# Altium schematic symbol library Schlib.SchLib: 629 symbols (part 12 of 21)
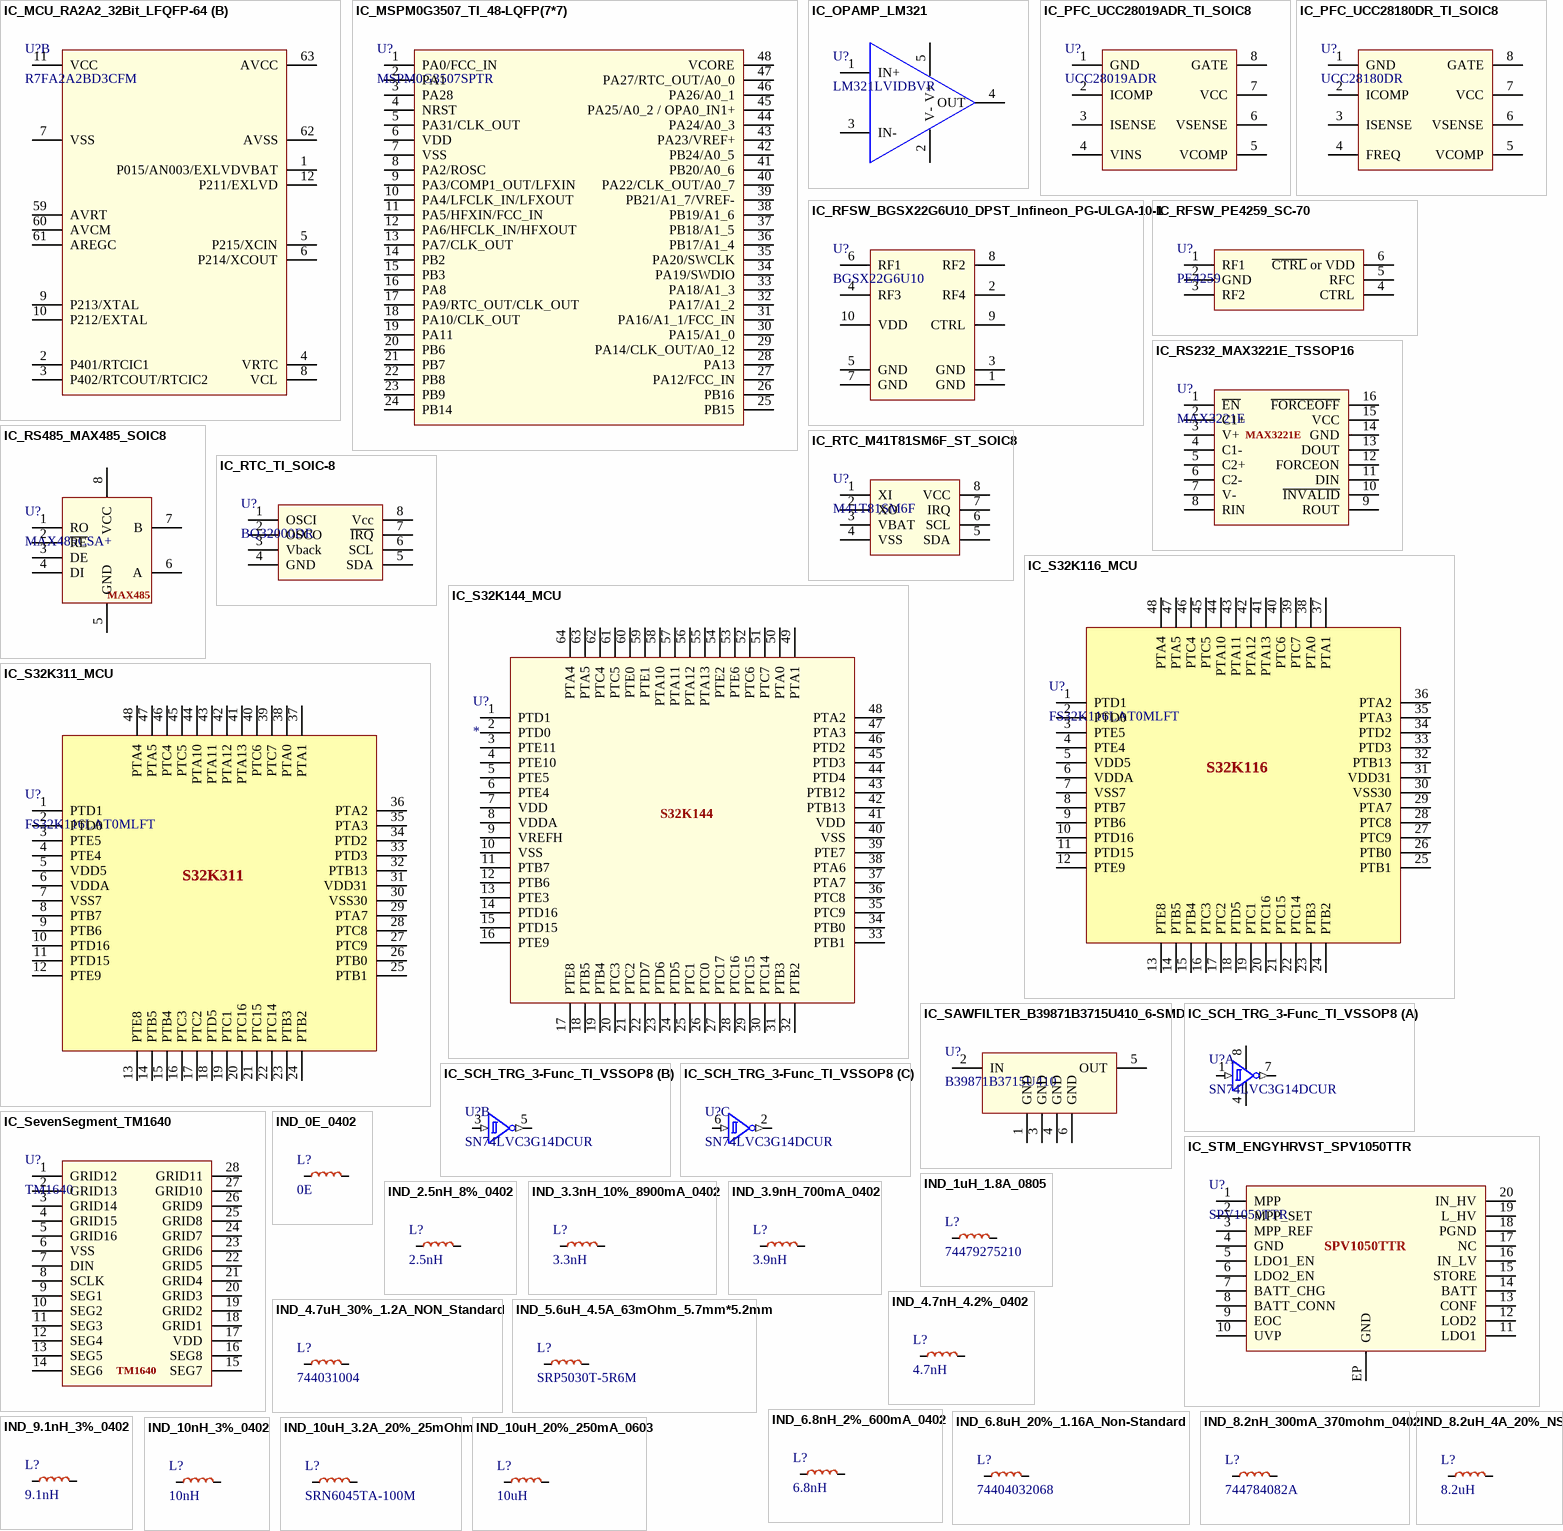
[diagram p29: symbols IC_MCU_RA2A2_32Bit_LFQFP-64 to IND_10uH_20%_250mA_0603]

## IND_10uH_20%_250mA_0603
designator L?, comment 10uH
General Purpose Inductor, 10uH, 20%, 1 Element, Ferrite-Core, SMD, 0603; Manufacturer: TDK; Manufacturer Part Number: MLZ1608M100WT000; Case/Size Code: 0603; DC Resistance (DCR): 1.05R; Channels: 1; Max Current Rating: 250mA; Self Resonant Frequency: 50MHz; Shape/Size Description: RECTANGULAR PACKAGE; Shielding: Unshielded; Test Frequency: 2MHz; Package Height: 0.8mm; Package Length: 1.6mm; Supplier: Digikey; Supplier Part Number: 445-6389-1-ND; RoHS: Yes; Category: Fixed Inductors; Stock: 119455; Pricing: 1=0.14, 10=0.105, 100=0.0816, 1000=0.06337 (USD); Pins: 2; Core Material: Ferrite; Min Operating Temperature: -55°C; Max Operating Temperature: 125°C; Tolerance: 20%; Construction: Multilayer Chip; Inductance-Nom (L): 10uH; Inductor Type: GENERAL PURPOSE INDUCTOR; Package Style: SMTMeter; Packaging: Tape and Reel; Surface Mount: Yes; Terminal Placement: Dual Ended; Termination: Wraparound; Package Width: 0.8mm; Reach SVHC Compliant: Yes; RoHS Compliant: Yes; ComponentLink1URL: https://datasheet.ciiva.com:443/pdfs/VipMasterIC/IC/TDKC/TDKC-S-A0007713882/TDKC-S-A0007713882-1.pdf?src-supplier=IHS+Markit; ComponentLink1Description: https://datasheet.ciiva.com:443/pdfs/VipMasterIC/IC/TDKC/TDKC-S-A0007713882/TDKC-S-A0007713882-1.pdf?src-supplier=IHS+Markit; ComponentLink2URL: https://product.tdk.com/info/en/catalog/datasheets/inductor_commercial_decoupling_mlz1608_en.pdf?src-supplier=Digikey; ComponentLink2Description: https://product.tdk.com/info/en/catalog/datasheets/inductor_commercial_decoupling_mlz1608_en.pdf?src-supplier=Digikey; ComponentLink3URL: https://datasheet.octopart.com/MLZ1608M100WT000-TDK-datasheet-12356712.pdf?src-supplier=Newark; ComponentLink3Description: https://datasheet.octopart.com/MLZ1608M100WT000-TDK-datasheet-12356712.pdf?src-supplier=Newark; ComponentLink4URL: https://datasheet.octopart.com/MLZ1608M100WT000-TDK-datasheet-38159369.pdf?src-supplier=Future+Electronics; ComponentLink4Description: https://datasheet.octopart.com/MLZ1608M100WT000-TDK-datasheet-38159369.pdf?src-supplier=Future+Electronics
footprint RES_0603
pins: 1, 2 1

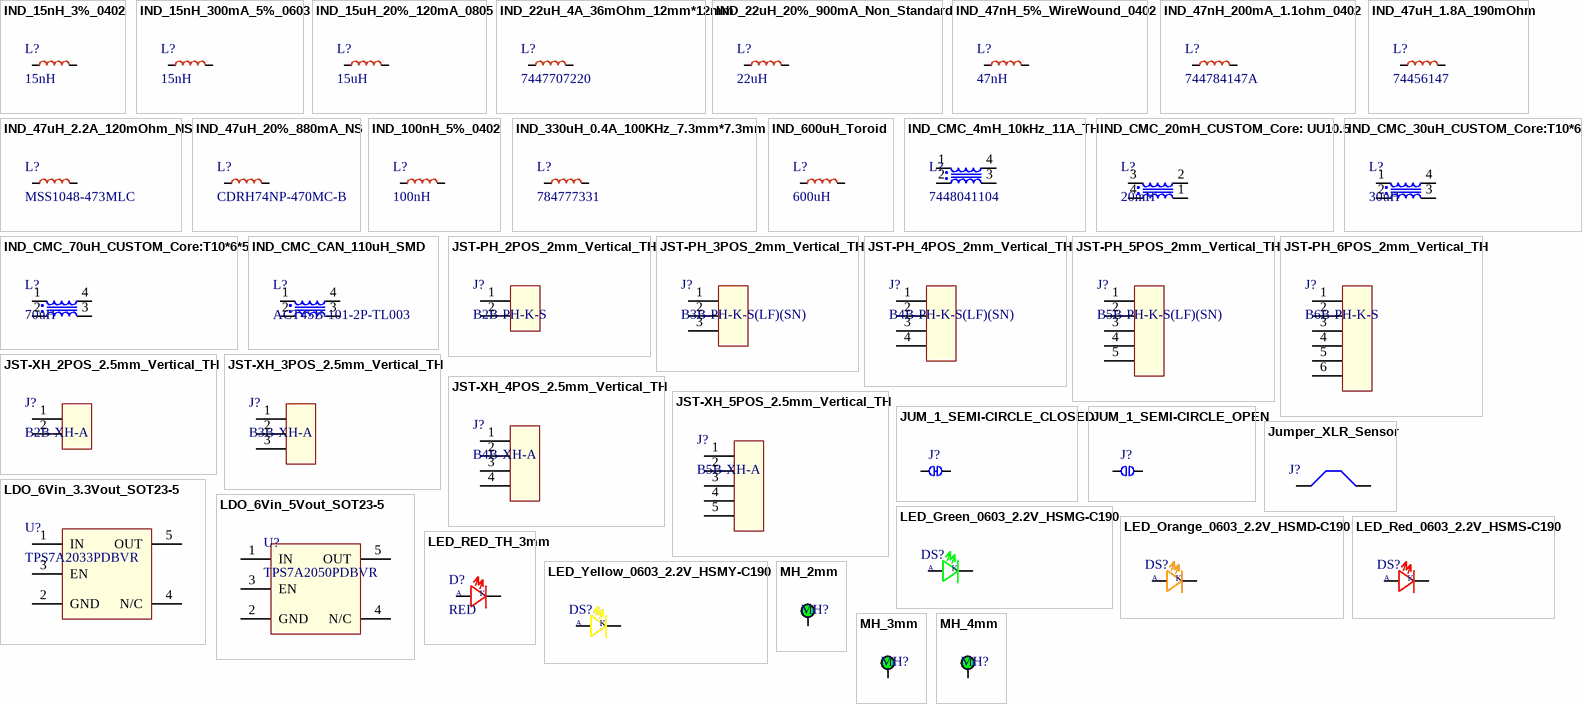
[diagram p10: symbols IND_15nH_3%_0402 to MH_4mm]

## IND_15nH_3%_0402
designator L?, comment 15nH
General Purpose Inductor, 0.015uH, 3%, 1 Element, Alumina-Core, SMD, 0402; Manufacturer: Murata; Manufacturer Part Number: LQW15AN15NH00D; Case/Size Code: 0402; DC Resistance (DCR): 160mR; Inductor Application: RF INDUCTOR; Channels: 1; Quality Factor-Min (at L-nom): 30; Max Current Rating: 460mA; Self Resonant Frequency: 5GHz; Shape/Size Description: RECTANGULAR PACKAGE; Shielding: Unshielded; Test Frequency: 100MHz; Package Height: 0.5mm; Package Length: 1mm; Package Width: 0.6mm; Supplier: Mouser; Supplier Part Number: 81-LQW15AN15NH00D; RoHS: Yes; Category: Fixed Inductors; Stock: 41175; Pricing: 1=0.14, 10=0.092, 50=0.092, 100=0.072, 1000=0.067, 10000=0.047 (USD); Pins: 2; Core Material: Alumina; Terminal Finish: Nickel; Min Operating Temperature: -55°C; Max Operating Temperature: 125°C; Tolerance: 3%; JESD-609 Code: e3; Construction: Wirewound Chip; Inductance-Nom (L): 0.015uH; Inductor Type: GENERAL PURPOSE INDUCTOR; Package Style: SMTMeter; Packaging: Tape and Reel; Surface Mount: Yes; Terminal Placement: Dual Ended; Termination: One Surface; Reach SVHC Compliant: Yes; RoHS Compliant: Yes; ComponentLink1URL: https://datasheet.ciiva.com:443/pdfs/VipMasterIC/IC/MURE/MURE-S-A0004390746/MURE-S-A0004390770-1.pdf?src-supplier=IHS+Markit; ComponentLink1Description: https://datasheet.ciiva.com:443/pdfs/VipMasterIC/IC/MURE/MURE-S-A0004390746/MURE-S-A0004390770-1.pdf?src-supplier=IHS+Markit; ComponentLink2URL: https://datasheet.ciiva.com/11799/0900766b8090d800-11799017.pdf?src-supplier=Rs; ComponentLink2Description: https://datasheet.ciiva.com/11799/0900766b8090d800-11799017.pdf?src-supplier=Rs; ComponentLink3URL: https://datasheet.ciiva.com/8507/l0075s0080lqw15a-00-8507493.pdf?src-supplier=Avnet; ComponentLink3Description: https://datasheet.ciiva.com/8507/l0075s0080lqw15a-00-8507493.pdf?src-supplier=Avnet; ComponentLink4URL: https://datasheet.ciiva.com/6705/l0075s0080lqw15a-00-6705423.pdf?src-supplier=Digikey; ComponentLink4Description: https://datasheet.ciiva.com/6705/l0075s0080lqw15a-00-6705423.pdf?src-supplier=Digikey; ComponentLink5URL: https://datasheet.ciiva.com/18089/getdatasheetpartid-136002-18089494.pdf?src-supplier=Verical; ComponentLink5Description: https://datasheet.ciiva.com/18089/getdatasheetpartid-136002-18089494.pdf?src-supplier=Verical
footprint RES_0402
pins: 1, 2 1

## IND_15nH_300mA_5%_0603
designator L?, comment 15nH
General Purpose Inductor; Manufacturer: Wurth Electronics; Manufacturer Part Number: 7447860115; Supplier: Rs; Supplier Part Number: 2177593; RoHS: No; Stock: 100; Pricing: 100=0.023, 500=0.043, 1000=0.036, 2000=0.034 (EUR); RoHS Compliant: Yes
footprint RES_0603
pins: 1, 2 1

## IND_15uH_20%_120mA_0805
designator L?, comment 15uH
General Purpose Inductor, 15uH, 20%, 1 Element, Ferrite-Core, SMD, 0805; Manufacturer: TDK; Manufacturer Part Number: MLZ2012M150WT000; Case/Size Code: 0805; DC Resistance (DCR): 950mR; Channels: 1; Max Current Rating: 250mA; Self Resonant Frequency: 40MHz; Shape/Size Description: RECTANGULAR PACKAGE; Shielding: Unshielded; Test Frequency: 2MHz; Package Height: 1.25mm; Package Length: 2mm; Supplier: Avnet; Supplier Part Number: 46W4793; RoHS: Yes; Category: Fixed Inductors; Stock: 235; Pricing: 1=0.118, 10=0.059, 25=0.054, 50=0.05, 100=0.045 (USD); Pins: 2; Core Material: Ferrite; Min Operating Temperature: -55°C; Max Operating Temperature: 125°C; Tolerance: 20%; Construction: Multilayer Chip; Inductance-Nom (L): 15uH; Inductor Type: GENERAL PURPOSE INDUCTOR; Package Style: SMTMeter; Packaging: Tape and Reel; Surface Mount: Yes; Terminal Placement: Dual Ended; Termination: Wraparound; Package Width: 1.25mm; Reach SVHC Compliant: Yes; RoHS Compliant: Yes; ComponentLink1URL: https://datasheet.ciiva.com:443/pdfs/VipMasterIC/IC/TDKC/TDKC-S-A0006811741/TDKC-S-A0006811741-1.pdf?src-supplier=IHS+Markit; ComponentLink1Description: https://datasheet.ciiva.com:443/pdfs/VipMasterIC/IC/TDKC/TDKC-S-A0006811741/TDKC-S-A0006811741-1.pdf?src-supplier=IHS+Markit; ComponentLink2URL: https://datasheet.ciiva.com/29690/inductor-commercial-decoupling-mlz-en-29690328.pdf?src-supplier=Digikey; ComponentLink2Description: https://datasheet.ciiva.com/29690/inductor-commercial-decoupling-mlz-en-29690328.pdf?src-supplier=Digikey; ComponentLink3URL: https://datasheet.ciiva.com/29690/inductor-commercial-decoupling-mlz-en-29690327.pdf?src-supplier=Digikey; ComponentLink3Description: https://datasheet.ciiva.com/29690/inductor-commercial-decoupling-mlz-en-29690327.pdf?src-supplier=Digikey; ComponentLink4URL: https://datasheet.ciiva.com/29690/inductor-commercial-decoupling-mlz-en-29690329.pdf?src-supplier=Digikey; ComponentLink4Description: https://datasheet.ciiva.com/29690/inductor-commercial-decoupling-mlz-en-29690329.pdf?src-supplier=Digikey
footprint RES_0805
pins: 1, 2 1

## IND_22uH_4A_36mOhm_12mm*12mm
designator L?, comment 7447707220
Power Inductors - SMD WE-PD 22uH 4A DCR=36mOhms AECQ200; Manufacturer: Wurth Electronics; Supplier: Mouser; Supplier Part Number: 710-7447707220; Manufacturer Part Number: 7447707220; RoHS: No; Stock: 489; Pricing: 1=2.58, 10=2.4, 50=2.24, 100=2.17, 1000=1.84, 10000=1.58 (USD); RoHS Compliant: Yes
footprint IND 12mm*12mm
pins: 1, 2 1

## IND_22uH_20%_900mA_Non_Standard
designator L?, comment 22uH
General Purpose Inductor, 22uH, 20%, 1 Element, Ferrite-Core, SMD, 1515; Manufacturer: Coilcraft; Manufacturer Part Number: LPS4018-223MRC; Supplier: Mouser; Supplier Part Number: 994-LPS4018-223MRC; RoHS: No; Category: Fixed Inductors; Stock: 36587; Pricing: 1=1.22, 10=1.22, 50=1.22, 100=1.22, 1000=0.663, 10000=0.663 (USD); ComponentLink1URL: https://datasheet.ciiva.com:443/pdfs/VipMasterIC/IC/COLC/COLC-S-A0003132126/COLC-S-A0003132126-1.pdf?src-supplier=IHS+Markit; ComponentLink1Description: https://datasheet.ciiva.com:443/pdfs/VipMasterIC/IC/COLC/COLC-S-A0003132126/COLC-S-A0003132126-1.pdf?src-supplier=IHS+Markit; ComponentLink2URL: http://www.mouser.com/ds/2/597/lps4018-270702.pdf?src-supplier=Mouser; ComponentLink2Description: http://www.mouser.com/ds/2/597/lps4018-270702.pdf?src-supplier=Mouser
footprint IND_1515
pins: 1, 2 1

## IND_47nH_5%_WireWound_0402
designator L?, comment 47nH
General Purpose Inductor, 0.047uH, 5%, 1 Element, Alumina-Core, SMD, 0402; Manufacturer: Murata; Manufacturer Part Number: LQW15AN47NJ00D; Case/Size Code: 0402; DC Resistance (DCR): 1.08R; Inductor Application: RF INDUCTOR; Channels: 1; Quality Factor-Min (at L-nom): 25; Max Current Rating: 210mA; Self Resonant Frequency: 2.9GHz; Shape/Size Description: RECTANGULAR PACKAGE; Shielding: Unshielded; Test Frequency: 100MHz; Package Height: 0.5mm; Package Length: 1mm; Supplier: Rs; Supplier Part Number: 7926454P; RoHS: Yes; Category: Fixed Inductors; Stock: 4260; Pricing: 50=0.081, 100=0.072, 500=0.061, 2000=0.057 (EUR); Pins: 2; Core Material: Alumina; Terminal Finish: Nickel; Min Operating Temperature: -55°C; Max Operating Temperature: 125°C; Tolerance: 5%; JESD-609 Code: e3; Construction: Wirewound Chip; Inductance-Nom (L): 0.047uH; Inductor Type: GENERAL PURPOSE INDUCTOR; Package Style: SMTMeter; Packaging: Tape and Reel; Surface Mount: Yes; Terminal Placement: Dual Ended; Termination: One Surface; Package Width: 0.5mm; Reach SVHC Compliant: Yes; RoHS Compliant: Yes; ComponentLink1URL: https://datasheet.ciiva.com:443/pdfs/VipMasterIC/IC/MURE/MURE-S-A0004390746/MURE-S-A0004390935-1.pdf?src-supplier=IHS+Markit; ComponentLink1Description: https://datasheet.ciiva.com:443/pdfs/VipMasterIC/IC/MURE/MURE-S-A0004390746/MURE-S-A0004390935-1.pdf?src-supplier=IHS+Markit; ComponentLink2URL: https://datasheet.ciiva.com/1042/l0075s0080lqw15a-00-1042160.pdf?src-supplier=Digikey; ComponentLink2Description: https://datasheet.ciiva.com/1042/l0075s0080lqw15a-00-1042160.pdf?src-supplier=Digikey; ComponentLink3URL: https://datasheet.ciiva.com/11799/0900766b8090d800-11799049.pdf?src-supplier=Rs; ComponentLink3Description: https://datasheet.ciiva.com/11799/0900766b8090d800-11799049.pdf?src-supplier=Rs; ComponentLink4URL: https://datasheet.ciiva.com/1042/l0075s0080lqw15a-00-1042159.pdf?src-supplier=Digikey; ComponentLink4Description: https://datasheet.ciiva.com/1042/l0075s0080lqw15a-00-1042159.pdf?src-supplier=Digikey; ComponentLink5URL: https://datasheet.ciiva.com/1042/l0075s0080lqw15a-00-1042161.pdf?src-supplier=Digikey; ComponentLink5Description: https://datasheet.ciiva.com/1042/l0075s0080lqw15a-00-1042161.pdf?src-supplier=Digikey; ComponentLink6URL: https://datasheet.ciiva.com/8506/l0075s0080lqw15a-00-8506009.pdf?src-supplier=Avnet; ComponentLink6Description: https://datasheet.ciiva.com/8506/l0075s0080lqw15a-00-8506009.pdf?src-supplier=Avnet
footprint RES_0402
pins: 1, 2 1

## IND_47nH_200mA_1.1ohm_0402
designator L?, comment 744784147A
FIXED IND 47NH 200MA 1.1 OHM SMD; Manufacturer: Wurth Electronics; Inductor Type: GENERAL PURPOSE INDUCTOR; Supplier: Digikey; Supplier Part Number: 732-6241-1-ND; Manufacturer Part Number: 744784147A; RoHS: Yes; Category: Fixed Inductors; Stock: 22555; Pricing: 1=0.19, 50=0.167, 100=0.143, 500=0.131, 1000=0.119, 2000=0.101 (USD); Reach SVHC Compliant: Yes; RoHS Compliant: Yes; ComponentLink1URL: https://datasheet.ciiva.com:443/pdfs/VipMasterIC/IC/MIDC/MIDC-S-A0009028210/MIDC-S-A0008610720-1.pdf?src-supplier=IHS+Markit; ComponentLink1Description: https://datasheet.ciiva.com:443/pdfs/VipMasterIC/IC/MIDC/MIDC-S-A0009028210/MIDC-S-A0008610720-1.pdf?src-supplier=IHS+Markit; ComponentLink2URL: http://www.farnell.com/datasheets/1818741.pdf?src-supplier=Farnell; ComponentLink2Description: http://www.farnell.com/datasheets/1818741.pdf?src-supplier=Farnell; ComponentLink3URL: http://www.farnell.com/datasheets/1818741.pdf?src-supplier=Element14; ComponentLink3Description: http://www.farnell.com/datasheets/1818741.pdf?src-supplier=Element14; ComponentLink4URL: https://katalog.we-online.de/pbs/datasheet/744784147A.pdf?src-supplier=Digikey; ComponentLink4Description: https://katalog.we-online.de/pbs/datasheet/744784147A.pdf?src-supplier=Digikey
footprint RES_0402
pins: 1, 2 1

## IND_47uH_1.8A_190mOhm
designator L?, comment 74456147
General Purpose Inductor, 47uH, 10%, 1 Element, Ferrite-Core, SMD, 5039; Manufacturer: Wurth Electronics; Case/Size Code: 5039; DC Resistance (DCR): 190mR; Inductor Application: POWER INDUCTOR; Channels: 1; Max Current Rating: 1.8A; Self Resonant Frequency: 12MHz; Shape/Size Description: RECTANGULAR PACKAGE; Shielding: Unshielded; Test Frequency: 100kHz; Package Height: 5mm; Package Length: 12.7mm; Package Width: 10mm; Supplier: Digikey; Supplier Part Number: 732-74456147CT-ND; Manufacturer Part Number: 74456147; RoHS: Yes; Category: Fixed Inductors; Stock: 2450; Pricing: 1=2.06, 10=1.97, 50=1.839, 100=1.708, 250=1.576 (USD); Pins: 2; Core Material: Ferrite; Terminal Finish: Copper; Min Operating Temperature: -40°C; Max Operating Temperature: 125°C; Tolerance: 10%; JESD-609 Code: e1; Construction: Unshielded; Inductance-Nom (L): 47uH; Inductor Type: GENERAL PURPOSE INDUCTOR; Package Style: SMTMeter; Packaging: Tape and Reel; Surface Mount: Yes; Terminal Placement: Dual Ended; Termination: One Surface; Reach SVHC Compliant: Yes; RoHS Compliant: Yes; ComponentLink1URL: https://datasheet.ciiva.com:443/pdfs/VipMasterIC/IC/MIDC/MIDC-S-A0001528382/MIDC-S-A0001527892-1.pdf?src-supplier=IHS+Markit; ComponentLink1Description: https://datasheet.ciiva.com:443/pdfs/VipMasterIC/IC/MIDC/MIDC-S-A0001528382/MIDC-S-A0001527892-1.pdf?src-supplier=IHS+Markit; ComponentLink2URL: https://datasheet.ciiva.com/1051/74456147-1051938.pdf?src-supplier=Digikey; ComponentLink2Description: https://datasheet.ciiva.com/1051/74456147-1051938.pdf?src-supplier=Digikey; ComponentLink3URL: https://datasheet.ciiva.com/11800/0900766b80bbd134-11800112.pdf?src-supplier=Rs; ComponentLink3Description: https://datasheet.ciiva.com/11800/0900766b80bbd134-11800112.pdf?src-supplier=Rs; ComponentLink4URL: https://datasheet.ciiva.com/7754/1735994-7754532.pdf?src-supplier=Element14; ComponentLink4Description: https://datasheet.ciiva.com/7754/1735994-7754532.pdf?src-supplier=Element14; ComponentLink5URL: https://datasheet.ciiva.com/7265/70054-7265056.pdf?src-supplier=Newark; ComponentLink5Description: https://datasheet.ciiva.com/7265/70054-7265056.pdf?src-supplier=Newark; ComponentLink6URL: https://datasheet.ciiva.com/1051/74456147-1051939.pdf?src-supplier=Digikey; ComponentLink6Description: https://datasheet.ciiva.com/1051/74456147-1051939.pdf?src-supplier=Digikey
footprint ind 14mm*14mm
pins: 1, 2 1

## IND_47uH_2.2A_120mOhm_NS
designator L?, comment MSS1048-473MLC
General Purpose Inductor, 47uH, 20%, 1 Element, Ferrite-Core, SMD, 4039; Manufacturer: Coilcraft; Case/Size Code: 4039; DC Resistance (DCR): 120mR; Inductor Application: POWER INDUCTOR; Channels: 1; Max Current Rating: 2.42A; Self Resonant Frequency: 10MHz; Shape/Size Description: RECTANGULAR PACKAGE; Shielding: Shielded; Test Frequency: 100kHz; Package Height: 4.8mm; Package Length: 10.2mm; Package Width: 10mm; Reference Standard: AEC-Q200; Supplier: Mouser; Supplier Part Number: 994-MSS1048-473MLC; Manufacturer Part Number: MSS1048-473MLC; RoHS: Yes; Category: Fixed Inductors; Stock: 4232; Pricing: 1=2.54, 10=2.54, 50=2.54, 100=2.54, 1000=1.16, 10000=1.16 (USD); Pins: 2; Core Material: Ferrite; Terminal Finish: Nickel; Min Operating Temperature: -40°C; Max Operating Temperature: 125°C; Tolerance: 20%; JESD-609 Code: e3; Construction: Shielded; Inductance-Nom (L): 47uH; Inductor Type: GENERAL PURPOSE INDUCTOR; Package Style: SMTMeter; Packaging: Tape and Reel; Surface Mount: Yes; Terminal Placement: Dual Ended; Termination: Wraparound; Reach SVHC Compliant: Yes; RoHS Compliant: Yes; ComponentLink1URL: https://datasheet.ciiva.com:443/pdfs/VipMasterIC/IC/COLC/COLC-S-A0004853637/COLC-S-A0004853637-1.pdf?src-supplier=IHS+Markit; ComponentLink1Description: https://datasheet.ciiva.com:443/pdfs/VipMasterIC/IC/COLC/COLC-S-A0004853637/COLC-S-A0004853637-1.pdf?src-supplier=IHS+Markit; ComponentLink2URL: https://datasheet.ciiva.com/22679/1681949-22679916.pdf?src-supplier=Element14; ComponentLink2Description: https://datasheet.ciiva.com/22679/1681949-22679916.pdf?src-supplier=Element14; ComponentLink3URL: https://datasheet.ciiva.com/22679/1681949-22679917.pdf?src-supplier=Element14; ComponentLink3Description: https://datasheet.ciiva.com/22679/1681949-22679917.pdf?src-supplier=Element14; ComponentLink4URL: https://datasheet.ciiva.com/22702/1681949-22702527.pdf?src-supplier=Element14; ComponentLink4Description: https://datasheet.ciiva.com/22702/1681949-22702527.pdf?src-supplier=Element14
footprint ind 10*10mm
pins: 1, 2 1

## IND_47uH_20%_880mA_NS
designator L?, comment CDRH74NP-470MC-B
General Purpose Inductor, 47uH, 20%, 1 Element, Ferrite-Core, SMD, 3030; Manufacturer: Sumida; Case/Size Code: 3030; DC Resistance (DCR): 260mR; Inductor Application: POWER INDUCTOR; Channels: 1; Max Current Rating: 880mA; Shape/Size Description: RECTANGULAR PACKAGE; Shielding: Shielded; Test Frequency: 1kHz; Package Height: 4.5mm; Package Length: 7.3mm; Supplier: Avnet; Supplier Part Number: CDRH74NP-470MC-B; Manufacturer Part Number: CDRH74NP-470MC-B; RoHS: Yes; Category: Fixed Inductors; Stock: 5000; Pricing: 1000=0.47278, 2000=0.46357, 4000=0.45436, 6000=0.44515, 8000=0.43594, 10000=0.41752, 100000=0.29172 (USD); Pins: 2; Core Material: Ferrite; Min Operating Temperature: -40°C; Max Operating Temperature: 100°C; Tolerance: 20%; Construction: Magnetically Shielded; Inductance-Nom (L): 47uH; Inductor Type: GENERAL PURPOSE INDUCTOR; Package Style: SMTMeter; Packaging: Tape and Reel; Series: CDRH74; Surface Mount: Yes; Terminal Placement: Dual Ended; Termination: Wraparound; Package Width: 7.3mm; RoHS Compliant: Yes; ComponentLink1URL: https://datasheet.ciiva.com:443/pdfs/VipMasterIC/IC/SMDC/SMDC-S-A0002849416/SMDC-S-A0002849416-1.pdf?src-supplier=IHS+Markit; ComponentLink1Description: https://datasheet.ciiva.com:443/pdfs/VipMasterIC/IC/SMDC/SMDC-S-A0002849416/SMDC-S-A0002849416-1.pdf?src-supplier=IHS+Markit; ComponentLink2URL: https://datasheet.ciiva.com/26919/getdatasheetpartid-746471-26919460.pdf?src-supplier=Verical; ComponentLink2Description: https://datasheet.ciiva.com/26919/getdatasheetpartid-746471-26919460.pdf?src-supplier=Verical
footprint ind 7.3mm*7.3mm
pins: 1, 2 1

## IND_100nH_5%_0402
designator L?, comment 100nH
General Purpose Inductor, 0.1uH, 5%, 1 Element, Air-Core, SMD, 0402; Manufacturer: Murata; Manufacturer Part Number: LQG15HSR10J02D; Core Material: Air; Case/Size Code: 0402; DC Resistance (DCR): 1.25R; Inductor Application: RF INDUCTOR; Channels: 1; Quality Factor-Min (at L-nom): 8; Max Current Rating: 200mA; Self Resonant Frequency: 600MHz; Shape/Size Description: RECTANGULAR PACKAGE; Shielding: Unshielded; Test Frequency: 100MHz; Package Height: 0.5mm; Package Length: 1mm; Supplier: Farnell; Supplier Part Number: 4155376; RoHS: Yes; Category: Fixed Inductors; Stock: 19648; Pricing: 10=0.046, 100=0.036, 500=0.028, 2500=0.023, 5000=0.021, 10000=0.02 (EUR); Pins: 2; Terminal Finish: Nickel; Min Operating Temperature: -55°C; Max Operating Temperature: 125°C; Tolerance: 5%; JESD-609 Code: e3; Construction: Multilayer Chip; Inductance-Nom (L): 0.1uH; Inductor Type: GENERAL PURPOSE INDUCTOR; Package Style: SMTMeter; Packaging: Tape and Reel; Surface Mount: Yes; Terminal Placement: Dual Ended; Termination: Wraparound; Package Width: 0.5mm; Reach SVHC Compliant: Yes; RoHS Compliant: Yes; ComponentLink1URL: https://datasheet.ciiva.com:443/pdfs/VipMasterIC/IC/MURE/MURE-S-A0004224658/MURE-S-A0004277507-1.pdf?src-supplier=IHS+Markit; ComponentLink1Description: https://datasheet.ciiva.com:443/pdfs/VipMasterIC/IC/MURE/MURE-S-A0004224658/MURE-S-A0004277507-1.pdf?src-supplier=IHS+Markit; ComponentLink2URL: https://datasheet.ciiva.com/16456/lqg15hsr10j02d-16456249.pdf?src-supplier=Future+Electronics; ComponentLink2Description: https://datasheet.ciiva.com/16456/lqg15hsr10j02d-16456249.pdf?src-supplier=Future+Electronics; ComponentLink3URL: https://datasheet.ciiva.com/11799/0900766b8090d458-11799078.pdf?src-supplier=Rs; ComponentLink3Description: https://datasheet.ciiva.com/11799/0900766b8090d458-11799078.pdf?src-supplier=Rs; ComponentLink4URL: https://datasheet.ciiva.com/6690/l0075s0083lqg15hs-6690750.pdf?src-supplier=Digikey; ComponentLink4Description: https://datasheet.ciiva.com/6690/l0075s0083lqg15hs-6690750.pdf?src-supplier=Digikey; ComponentLink5URL: https://datasheet.ciiva.com/6690/l0075s0083lqg15hs-6690751.pdf?src-supplier=Digikey; ComponentLink5Description: https://datasheet.ciiva.com/6690/l0075s0083lqg15hs-6690751.pdf?src-supplier=Digikey; ComponentLink6URL: https://datasheet.ciiva.com/4978/o05e-4978399.pdf?src-supplier=Mouser; ComponentLink6Description: https://datasheet.ciiva.com/4978/o05e-4978399.pdf?src-supplier=Mouser
footprint RES_0402
pins: 1, 2 1

## IND_330uH_0.4A_100KHz_7.3mm*7.3mm
designator L?, comment 784777331
Inductor, Aec-Q200, 330Uh, Shld, 0.4A Rohs Compliant: Yes |Wurth Elektronik 784777331; Manufacturer: Wurth Electronics; Supplier 1: Digi-Key; Manufacturer Part Number: 784777331; RoHS: No; Category: Fixed Inductors; Stock 1: 965; Pricing 1: 1=1.83, 5=1.782, 10=1.729, 20=1.688, 40=1.594 (USD); Supplier Part Number 1: 732-784777331CT-ND
footprint ind 7.3mm*7.3mm
pins: 1, 2 1

## IND_600uH_Toroid
designator L?, comment 600uH
pins: 1, 2 1

## IND_CMC_4mH_10kHz_11A_TH
designator L?, comment 7448041104
Single Phase EMI Filter, 250V, 50HzHz; Manufacturer: Wurth Electronics; Supplier: Rs; Supplier Part Number: 8164802P; Manufacturer Part Number: 7448041104; RoHS: Yes; Category: Common Mode Chokes; Stock: 47; Pricing: 5=11.19, 10=10.08, 25=9.06 (EUR); Terminal Finish: Copper; Filter Type: SINGLE PHASE EMI FILTER; JESD-609 Code: e2; Reach SVHC Compliant: Yes; RoHS Compliant: Yes; ComponentLink1URL: https://datasheet.ciiva.com:443/pdfs/VipMasterIC/IC/MIDC/MIDC-S-A0009460347/MIDC-S-A0009460347-1.pdf?src-supplier=IHS+Markit; ComponentLink1Description: https://datasheet.ciiva.com:443/pdfs/VipMasterIC/IC/MIDC/MIDC-S-A0009460347/MIDC-S-A0009460347-1.pdf?src-supplier=IHS+Markit; ComponentLink2URL: http://www.farnell.com/datasheets/1832956.pdf?src-supplier=Farnell; ComponentLink2Description: http://www.farnell.com/datasheets/1832956.pdf?src-supplier=Farnell; ComponentLink3URL: http://www.mouser.com/ds/2/445/7448041104-321505.pdf?src-supplier=Mouser; ComponentLink3Description: http://www.mouser.com/ds/2/445/7448041104-321505.pdf?src-supplier=Mouser; ComponentLink4URL: http://www.farnell.com/datasheets/1832956.pdf?src-supplier=Element14; ComponentLink4Description: http://www.farnell.com/datasheets/1832956.pdf?src-supplier=Element14; ComponentLink5URL: http://katalog.we-online.de/pbs/datasheet/7448041104.pdf?src-supplier=Digikey; ComponentLink5Description: http://katalog.we-online.de/pbs/datasheet/7448041104.pdf?src-supplier=Digikey; ComponentLink6URL: http://www.farnell.com/datasheets/1832956.pdf?src-supplier=Newark; ComponentLink6Description: http://www.farnell.com/datasheets/1832956.pdf?src-supplier=Newark
footprint CMC_7448041104
pins: 1, 2, 3, 4

## IND_CMC_20mH_CUSTOM_Core: UU10.5
designator L?, comment 20mH
footprint CMC_Core: UU10.5
pins: 1 3, 2 4, 3 1, 4 2

## IND_CMC_30uH_CUSTOM_Core:T10*6*5
designator L?, comment 30uH
footprint CMC T:10*6*5
pins: 1, 2, 3, 4

## IND_CMC_70uH_CUSTOM_Core:T10*6*5
designator L?, comment 70uH
footprint CMC T:10*6*5
pins: 1, 2, 3, 4

## IND_CMC_CAN_110uH_SMD
designator L?, comment ACT45B-101-2P-TL003
Ferrite Chip, 2 Function(s), 50V, 0.15A; Manufacturer: TDK; DC Resistance-Max: 3R; Insulation Resistance-Min: 10MR; Channels: 2; Output Impedance: 5kR; Current Rating: 100mA; Supplier: Digikey; Supplier Part Number: 445-3959-1-ND; Manufacturer Part Number: ACT45B-101-2P-TL003; RoHS: Yes; Category: Common Mode Chokes; Stock: 25462; Pricing: 1=1.77, 10=1.274, 25=1.1464, 50=1.0192, 100=0.98, 250=0.9408, 500=0.86436 (USD); Mounting Technology: Surface Mount; Min Operating Temperature: -40°C; Max Operating Temperature: 150°C; Filter Type: FERRITE CHIP; Packaging: Tape and Reel; Voltage Rating: 50V; Length: 4.5mm; Width: 3.2mm; Height: 2.8mm; Reach SVHC Compliant: Yes; RoHS Compliant: Yes; ComponentLink1URL: https://datasheet.ciiva.com:443/pdfs/VipMasterIC/IC/TDKC/TDKC-S-A0008256339/TDKC-S-A0008256339-1.pdf?src-supplier=IHS+Markit; ComponentLink1Description: https://datasheet.ciiva.com:443/pdfs/VipMasterIC/IC/TDKC/TDKC-S-A0008256339/TDKC-S-A0008256339-1.pdf?src-supplier=IHS+Markit; ComponentLink2URL: https://datasheet.ciiva.com/1007/e9711-act-1007936.pdf?src-supplier=Digikey; ComponentLink2Description: https://datasheet.ciiva.com/1007/e9711-act-1007936.pdf?src-supplier=Digikey; ComponentLink3URL: https://datasheet.ciiva.com/16150/e9711-act-16150481.pdf?src-supplier=Onlinecomponents.com; ComponentLink3Description: https://datasheet.ciiva.com/16150/e9711-act-16150481.pdf?src-supplier=Onlinecomponents.com; ComponentLink4URL: https://datasheet.ciiva.com/26936/getdatasheetpartid-327023-26936433.pdf?src-supplier=Verical; ComponentLink4Description: https://datasheet.ciiva.com/26936/getdatasheetpartid-327023-26936433.pdf?src-supplier=Verical; ComponentLink5URL: https://datasheet.ciiva.com/22704/1833202-22704378.pdf?src-supplier=Element14; ComponentLink5Description: https://datasheet.ciiva.com/22704/1833202-22704378.pdf?src-supplier=Element14; ComponentLink6URL: https://datasheet.ciiva.com/1007/e9711-act-1007935.pdf?src-supplier=Digikey; ComponentLink6Description: https://datasheet.ciiva.com/1007/e9711-act-1007935.pdf?src-supplier=Digikey; ComponentLink7URL: https://datasheet.ciiva.com/1007/e9711-act-1007934.pdf?src-supplier=Digikey; ComponentLink7Description: https://datasheet.ciiva.com/1007/e9711-act-1007934.pdf?src-supplier=Digikey; ComponentLink8URL: https://datasheet.ciiva.com/8498/e9711-act-8498104.pdf?src-supplier=Avnet; ComponentLink8Description: https://datasheet.ciiva.com/8498/e9711-act-8498104.pdf?src-supplier=Avnet; ComponentLink9URL: https://datasheet.ciiva.com/7649/1833202-7649181.pdf?src-supplier=Element14; ComponentLink9Description: https://datasheet.ciiva.com/7649/1833202-7649181.pdf?src-supplier=Element14; ComponentLink10URL: https://datasheet.ciiva.com/16390/e9711-act-16390646.pdf?src-supplier=Future+Electronics; ComponentLink10Description: https://datasheet.ciiva.com/16390/e9711-act-16390646.pdf?src-supplier=Future+Electronics; ComponentLink11URL: https://datasheet.ciiva.com/31839/15e9711-act-31839430.pdf?src-supplier=Onlinecomponents.com; ComponentLink11Description: https://datasheet.ciiva.com/31839/15e9711-act-31839430.pdf?src-supplier=Onlinecomponents.com
pins: 1, 2, 3, 4

## JST-PH_2POS_2mm_Vertical_TH
designator J?, comment B2B-PH-K-S
Socket; wire-board; male; PH; 2mm; PIN: 2; THT; 100V; 2A; -25÷85°C; Manufacturer: JST; Supplier: Digikey; Supplier Part Number: 455-1704-ND; Manufacturer Part Number: B2B-PH-K-S; RoHS: Yes; Category: Headers and Wire Housings; Stock: 392979; Pricing: 1=0.12, 10=0.102, 100=0.087, 500=0.07766, 1000=0.07395, 5000=0.066, 10000=0.06285 (USD); ComponentLink1URL: https://datasheet.ciiva.com/6905/phseries-6905929.pdf?src-supplier=Digikey; ComponentLink1Description: https://datasheet.ciiva.com/6905/phseries-6905929.pdf?src-supplier=Digikey
footprint JST_PH_2POS_2mm
pins: 1, 2

## JST-PH_3POS_2mm_Vertical_TH
designator J?, comment B3B-PH-K-S(LF)(SN)
Connector Header, PH Series, 3 Position, 2.00mm, Through Hole, Press-Fit, Solder, Natural; Manufacturer: JST; Supplier: Future Electronics; Supplier Part Number: 6478077; Manufacturer Part Number: B3B-PH-K-S(LF)(SN); RoHS: Yes; Category: Headers and Wire Housings; Stock: 40871; Pricing: 1000=0.077, 3000=0.0749, 5000=0.0739, 10000=0.0726, 20000=0.0706 (USD); ComponentLink1URL: https://datasheet.ciiva.com/11746/0900766b80826550-11746939.pdf?src-supplier=Rs; ComponentLink1Description: https://datasheet.ciiva.com/11746/0900766b80826550-11746939.pdf?src-supplier=Rs; ComponentLink2URL: https://datasheet.ciiva.com/6747/80560-6747401.pdf?src-supplier=Newark; ComponentLink2Description: https://datasheet.ciiva.com/6747/80560-6747401.pdf?src-supplier=Newark; ComponentLink3URL: https://datasheet.ciiva.com/16200/eph-16200926.pdf?src-supplier=Future+Electronics; ComponentLink3Description: https://datasheet.ciiva.com/16200/eph-16200926.pdf?src-supplier=Future+Electronics; ComponentLink4URL: https://datasheet.ciiva.com/712/eph-712455.pdf?src-supplier=Digikey; ComponentLink4Description: https://datasheet.ciiva.com/712/eph-712455.pdf?src-supplier=Digikey; ComponentLink5URL: https://datasheet.ciiva.com/26894/getdatasheetpartid-448114-26894774.pdf?src-supplier=Verical; ComponentLink5Description: https://datasheet.ciiva.com/26894/getdatasheetpartid-448114-26894774.pdf?src-supplier=Verical; ComponentLink6URL: https://datasheet.ciiva.com/26924/getdatasheetpartid-651387-26924028.pdf?src-supplier=Verical; ComponentLink6Description: https://datasheet.ciiva.com/26924/getdatasheetpartid-651387-26924028.pdf?src-supplier=Verical; ComponentLink7URL: https://datasheet.ciiva.com/43491/741202-da-01-en-stiftleiste-gerade-3-pol-rm2-0-43491962.pdf?src-supplier=Conrad; ComponentLink7Description: https://datasheet.ciiva.com/43491/741202-da-01-en-stiftleiste-gerade-3-pol-rm2-0-43491962.pdf?src-supplier=Conrad
footprint JST_PH_3POS_2mm
pins: 1, 2, 3

## JST-PH_4POS_2mm_Vertical_TH
designator J?, comment B4B-PH-K-S(LF)(SN)
Board Connector, 4 Contact(s), 1 Row(s), Male, Straight, 0.079 inch Pitch, Solder Terminal, Locking, Natural Insulator; Manufacturer: JST; Supplier: Future Electronics; Supplier Part Number: 6390512; Manufacturer Part Number: B4B-PH-K-S(LF)(SN); RoHS: Yes; Category: Connectors; Stock: 19336; Pricing: 1000=0.0959, 3000=0.0932, 4000=0.0925, 10000=0.0904, 15000=0.0882 (USD); ComponentLink1URL: https://datasheet.ciiva.com:443/pdfs/VipMasterIC/IC/JSTM/JSTM-S-A0007943211/JSTM-S-A0007943211-1.pdf?src-supplier=IHS+Markit; ComponentLink1Description: https://datasheet.ciiva.com:443/pdfs/VipMasterIC/IC/JSTM/JSTM-S-A0007943211/JSTM-S-A0007943211-1.pdf?src-supplier=IHS+Markit; ComponentLink2URL: https://datasheet.ciiva.com/11747/0900766b8082f552-11747200.pdf?src-supplier=Rs; ComponentLink2Description: https://datasheet.ciiva.com/11747/0900766b8082f552-11747200.pdf?src-supplier=Rs; ComponentLink3URL: https://datasheet.ciiva.com/712/eph-712488.pdf?src-supplier=Digikey; ComponentLink3Description: https://datasheet.ciiva.com/712/eph-712488.pdf?src-supplier=Digikey; ComponentLink4URL: https://datasheet.ciiva.com/16209/eph-16209245.pdf?src-supplier=Future+Electronics; ComponentLink4Description: https://datasheet.ciiva.com/16209/eph-16209245.pdf?src-supplier=Future+Electronics; ComponentLink5URL: https://datasheet.ciiva.com/43491/741223-da-01-en-stiftleiste-gerade-4-pol-rm2-0-43491964.pdf?src-supplier=Conrad; ComponentLink5Description: https://datasheet.ciiva.com/43491/741223-da-01-en-stiftleiste-gerade-4-pol-rm2-0-43491964.pdf?src-supplier=Conrad
footprint JST_PH_4POS_2mm
pins: 1, 2, 3, 4

## JST-PH_5POS_2mm_Vertical_TH
designator J?, comment B5B-PH-K-S(LF)(SN)
Connector Header, PH Series, 5 Position, 2.00mm, Through Hole, Press-Fit, Solder, Natural; Manufacturer: JST; Supplier: Future Electronics; Supplier Part Number: 4105508; Manufacturer Part Number: B5B-PH-K-S(LF)(SN); RoHS: Yes; Category: Headers and Wire Housings; Stock: 209891; Pricing: 1=0.111, 250=0.109, 1000=0.106, 2000=0.123, 2500=0.105, 4000=0.122, 5000=0.121, 10000=0.1, 15000=0.118 (USD); ComponentLink1URL: https://datasheet.ciiva.com/11746/0900766b8082f553-11746665.pdf?src-supplier=Rs; ComponentLink1Description: https://datasheet.ciiva.com/11746/0900766b8082f553-11746665.pdf?src-supplier=Rs; ComponentLink2URL: https://datasheet.ciiva.com/712/eph-712531.pdf?src-supplier=Digikey; ComponentLink2Description: https://datasheet.ciiva.com/712/eph-712531.pdf?src-supplier=Digikey; ComponentLink3URL: https://datasheet.ciiva.com/8052/80560-8052060.pdf?src-supplier=Element14; ComponentLink3Description: https://datasheet.ciiva.com/8052/80560-8052060.pdf?src-supplier=Element14; ComponentLink4URL: https://datasheet.ciiva.com/26894/getdatasheetpartid-640355-26894471.pdf?src-supplier=Verical; ComponentLink4Description: https://datasheet.ciiva.com/26894/getdatasheetpartid-640355-26894471.pdf?src-supplier=Verical
footprint JST_PH_5POS_2mm
pins: 1, 2, 3, 4, 5

## JST-PH_6POS_2mm_Vertical_TH
designator J?, comment B6B-PH-K-S
PH Non-RoHS Compliant 2005 Vertical Connector Header 10mOhm -25C~85C 2A 800V; Manufacturer: JST; Supplier: Digikey; Supplier Part Number: 455-1708-ND; Manufacturer Part Number: B6B-PH-K-S; RoHS: Yes; Category: Headers and Wire Housings; Pricing: 1=0.29, 10=0.245, 100=0.208, 500=0.1856, 1000=0.17672, 5000=0.15773, 10000=0.15021 (USD); ComponentLink1URL: https://www.distrelec.biz/Web/Downloads/g_/ds/ph_kr20_eng_ds.pdf?mime=application%2Fpdf&src-supplier=Distrelec; ComponentLink1Description: https://www.distrelec.biz/Web/Downloads/g_/ds/ph_kr20_eng_ds.pdf?mime=application%2Fpdf&src-supplier=Distrelec; ComponentLink2URL: https://media.digikey.com/pdf/Data%20Sheets/JST%20PDFs/PH%20Series.pdf?src-supplier=Digikey; ComponentLink2Description: https://media.digikey.com/pdf/Data%20Sheets/JST%20PDFs/PH%20Series.pdf?src-supplier=Digikey
footprint JST_PH_6POS_2mm
pins: 1, 2, 3, 4, 5, 6

## JST-XH_2POS_2.5mm_Vertical_TH
designator J?, comment B2B-XH-A
CONNECTOR HEADER, XH SERIES, 2 POSITION, 2.50MM, Press-Fit Solder, Detent Lock, Natural; Manufacturer: JST; Manufacturer Part Number: B2B-XH-A(LF)(SN); Supplier: Rs; Supplier Part Number: 8201554P; RoHS: Yes; Category: Headers and Wire Housings; Stock: 35370; Pricing: 250=0.072, 500=0.068, 1250=0.062, 2500=0.06 (EUR); ComponentLink1URL: https://datasheet.ciiva.com/11746/0900766b8082653e-11746979.pdf?src-supplier=Rs; ComponentLink1Description: https://datasheet.ciiva.com/11746/0900766b8082653e-11746979.pdf?src-supplier=Rs; ComponentLink2URL: https://datasheet.ciiva.com/26894/getdatasheetpartid-640357-26894434.pdf?src-supplier=Verical; ComponentLink2Description: https://datasheet.ciiva.com/26894/getdatasheetpartid-640357-26894434.pdf?src-supplier=Verical; ComponentLink3URL: https://datasheet.ciiva.com/26894/getdatasheetpartid-385291-26894760.pdf?src-supplier=Verical; ComponentLink3Description: https://datasheet.ciiva.com/26894/getdatasheetpartid-385291-26894760.pdf?src-supplier=Verical; ComponentLink4URL: https://datasheet.ciiva.com/8052/5448-8052024.pdf?src-supplier=Element14; ComponentLink4Description: https://datasheet.ciiva.com/8052/5448-8052024.pdf?src-supplier=Element14
footprint JST_XH_2POS_2.5mm
pins: 1, 2

## JST-XH_3POS_2.5mm_Vertical_TH
designator J?, comment B3B-XH-A
Connector Header, XH Series, 3 Position, 2.50mm, Through Hole, Press-Fit, Solder, Natural; Manufacturer: JST; Manufacturer Part Number: B3B-XH-A(LF)(SN); Supplier: Rs; Supplier Part Number: 8201557P; RoHS: Yes; Category: Headers and Wire Housings; Stock: 29395; Pricing: 125=0.056, 500=0.054, 1250=0.05, 2500=0.046 (EUR); ComponentLink1URL: https://datasheet.ciiva.com/26894/getdatasheetpartid-440399-26894778.pdf?src-supplier=Verical; ComponentLink1Description: https://datasheet.ciiva.com/26894/getdatasheetpartid-440399-26894778.pdf?src-supplier=Verical; ComponentLink2URL: https://datasheet.ciiva.com/11746/0900766b8082653f-11746520.pdf?src-supplier=Rs; ComponentLink2Description: https://datasheet.ciiva.com/11746/0900766b8082653f-11746520.pdf?src-supplier=Rs; ComponentLink3URL: https://datasheet.ciiva.com/26894/getdatasheetpartid-640434-26894454.pdf?src-supplier=Verical; ComponentLink3Description: https://datasheet.ciiva.com/26894/getdatasheetpartid-640434-26894454.pdf?src-supplier=Verical
footprint JST_XH_3POS_2.5mm
pins: 1, 2, 3

## JST-XH_4POS_2.5mm_Vertical_TH
designator J?, comment B4B-XH-A
Header for PCB; pitch 2.50mm; 4-contacts; THT male; top entry; 250V/3A; Manufacturer: JST; Manufacturer Part Number: B4B-XH-A(LF)(SN); Supplier: Rs; Supplier Part Number: 8201551P; RoHS: Yes; Category: Headers and Wire Housings; Stock: 16995; Pricing: 125=0.074, 500=0.07, 1250=0.066, 2500=0.062 (EUR); ComponentLink1URL: https://datasheet.ciiva.com/26924/getdatasheetpartid-640571-26924035.pdf?src-supplier=Verical; ComponentLink1Description: https://datasheet.ciiva.com/26924/getdatasheetpartid-640571-26924035.pdf?src-supplier=Verical; ComponentLink2URL: https://datasheet.ciiva.com/16203/b4b-xh-alfsn-16203642.pdf?src-supplier=Future+Electronics; ComponentLink2Description: https://datasheet.ciiva.com/16203/b4b-xh-alfsn-16203642.pdf?src-supplier=Future+Electronics; ComponentLink3URL: https://datasheet.ciiva.com/26894/getdatasheetpartid-455616-26894787.pdf?src-supplier=Verical; ComponentLink3Description: https://datasheet.ciiva.com/26894/getdatasheetpartid-455616-26894787.pdf?src-supplier=Verical; ComponentLink4URL: https://datasheet.ciiva.com/726/exh-726404.pdf?src-supplier=Digikey; ComponentLink4Description: https://datasheet.ciiva.com/726/exh-726404.pdf?src-supplier=Digikey
footprint JST_XH_4POS_2.5mm
pins: 1, 2, 3, 4

## JST-XH_5POS_2.5mm_Vertical_TH
designator J?, comment B5B-XH-A
间距2.5mm 5pin 直插 母座; Manufacturer: JST; Manufacturer Part Number: B5B-XH-AM(LF)(SN); Supplier: Mouser; Supplier Part Number: 306-B5BXHAMLFSN; RoHS: Yes; Category: Headers and Wire Housings; Stock: 9482; Pricing: 1=0.27, 10=0.225, 50=0.225, 100=0.172, 1000=0.121, 10000=0.097 (USD); ComponentLink1URL: https://datasheet.ciiva.com/26894/getdatasheetpartid-640829-26894480.pdf?src-supplier=Verical; ComponentLink1Description: https://datasheet.ciiva.com/26894/getdatasheetpartid-640829-26894480.pdf?src-supplier=Verical; ComponentLink2URL: https://datasheet.ciiva.com/726/exh-726396.pdf?src-supplier=Digikey; ComponentLink2Description: https://datasheet.ciiva.com/726/exh-726396.pdf?src-supplier=Digikey
footprint JST_XH_5POS_2.5mm
pins: 1, 2, 3, 4, 5

## JUM_1_SEMI-CIRCLE_CLOSED
designator J?  (value not drawn)  (net tie, no BOM)
Jumper - Short Circuit - Press Cut Open
footprint Jumper_Closed
pins: 1, 2

## JUM_1_SEMI-CIRCLE_OPEN
designator J?  (value not drawn)  (net tie, no BOM)
Jumper - Open Circuit - Solder to Close
footprint Jumper Semicircle open
pins: 1, 2

## Jumper_XLR_Sensor
designator J?  (value not drawn)
footprint Jumper_XLR_Hall Sensor
pins: 1, 2

## LDO_6Vin_3.3Vout_SOT23-5
designator U?, comment TPS7A2033PDBVR
Fixed Positive LDO Regulator, 3.3V, 0.14V Dropout, PDSO5; Manufacturer: Texas Instruments; Supplier: Mouser; Supplier Part Number: 595-TPS7A2033PDBVR; Manufacturer Part Number: TPS7A2033PDBVR; RoHS: Yes; Category: Voltage Regulators - Linear; Stock: 36931; Pricing: 1=0.31, 10=0.216, 50=0.192, 100=0.165, 1000=0.138, 10000=0.12 (USD)
footprint SOT23-5
pins: 1 IN, 2 GND, 3 EN, 4 N/C, 5 OUT

## LDO_6Vin_5Vout_SOT23-5
designator U?, comment TPS7A2050PDBVR
Fixed Positive LDO Regulator, 5V, 0.14V Dropout, PDSO5; Manufacturer: Texas Instruments; Supplier: Mouser; Supplier Part Number: 595-TPS7A2050PDBVR; Manufacturer Part Number: TPS7A2050PDBVR; RoHS: Yes; Category: Voltage Regulators - Linear; Stock: 46330; Pricing: 1=0.29, 10=0.172, 50=0.172, 100=0.133, 1000=0.132, 10000=0.131 (USD)
footprint SOT23-5
pins: 1 IN, 2 GND, 3 EN, 4 N/C, 5 OUT

## LED_Green_0603_2.2V_HSMG-C190
designator DS?, comment HSMG-C190  (value not drawn)
Green 572nm LED Indication - Discrete 2.2V 0603 (1608 Metric); Manufacturer: Broadcom Avago; Supplier 1: Digi-Key; Supplier Part Number 1: 516-1425-1-ND; Manufacturer Part Number: HSMG-C190; RoHS: Yes; Category: LEDs; Stock 1: 262974; Pricing 1: 1=0.39, 10=0.254, 100=0.1696, 500=0.11732, 1000=0.09776, 2000=0.08799 (USD); ComponentLink1URL: https://datasheet.ciiva.com/15117/getdatasheetpartid-110413-15117483.pdf?src-supplier=Verical; ComponentLink1Description: https://datasheet.ciiva.com/15117/getdatasheetpartid-110413-15117483.pdf?src-supplier=Verical; ComponentLink2URL: https://datasheet.ciiva.com/11773/0900766b80ad69c9-11773861.pdf?src-supplier=Rs; ComponentLink2Description: https://datasheet.ciiva.com/11773/0900766b80ad69c9-11773861.pdf?src-supplier=Rs; ComponentLink3URL: https://datasheet.ciiva.com/31395/1487342-31395358.pdf?src-supplier=Farnell; ComponentLink3Description: https://datasheet.ciiva.com/31395/1487342-31395358.pdf?src-supplier=Farnell; ComponentLink4URL: https://datasheet.ciiva.com/29280/180659-da-01-en-chip-led-hsmg-c190-gelb-gruen-29280615.pdf?src-supplier=Conrad; ComponentLink4Description: https://datasheet.ciiva.com/29280/180659-da-01-en-chip-led-hsmg-c190-gelb-gruen-29280615.pdf?src-supplier=Conrad; ComponentLink5URL: https://datasheet.ciiva.com/14172/swseriehsmx-c150toc190-e-14172173.pdf?src-supplier=Distrelec; ComponentLink5Description: https://datasheet.ciiva.com/14172/swseriehsmx-c150toc190-e-14172173.pdf?src-supplier=Distrelec; ComponentLink6URL: https://datasheet.ciiva.com/46426/313031-46426519.pdf?src-supplier=Element14; ComponentLink6Description: https://datasheet.ciiva.com/46426/313031-46426519.pdf?src-supplier=Element14; ComponentLink7URL: https://datasheet.ciiva.com/46426/313031-46426520.pdf?src-supplier=Element14; ComponentLink7Description: https://datasheet.ciiva.com/46426/313031-46426520.pdf?src-supplier=Element14
footprint LED_0603 (Chip Capacitor 0603, 2-Leads, Body 1.68x0.88mm, IPC Medium Density)
pins: 1, 2
text: A; K

## LED_Orange_0603_2.2V_HSMD-C190
designator DS?, comment HSMD-C190  (value not drawn)
Orange 604nm LED Indication - Discrete 2.2V 0603 (1608 Metric); Manufacturer: Broadcom Avago; Supplier 1: Digi-Key; Supplier Part Number 1: 516-2489-1-ND; Manufacturer Part Number: HSMD-C190; RoHS: Yes; Category: LEDs; Stock 1: 51960; Pricing 1: 1=0.41, 10=0.27, 100=0.1804, 500=0.1248, 1000=0.104, 2000=0.0936 (USD)
footprint LED_0603 (Chip Capacitor 0603, 2-Leads, Body 1.68x0.88mm, IPC Medium Density)
pins: 1, 2
text: A; K

## LED_Red_0603_2.2V_HSMS-C190
designator DS?, comment HSMS-C190  (value not drawn)
LED Low-Power Uni-Color Red 630nm 2.1V 2-Pin Chip LED T/R; Manufacturer: Broadcom Avago; Supplier 1: Digi-Key; Supplier Part Number 1: 516-1422-1-ND; Manufacturer Part Number: HSMS-C190; RoHS: Yes; Category: LEDs; Stock 1: 190765; Pricing 1: 1=0.41, 10=0.272, 100=0.1813, 500=0.12542, 1000=0.10452, 2000=0.09407 (USD)
footprint LED_0603 (Chip Capacitor 0603, 2-Leads, Body 1.68x0.88mm, IPC Medium Density)
pins: 1, 2
text: A; K

## LED_RED_TH_3mm
designator D?, comment RED
Single Color LED, Red, Diffused, T-1 3/4, 4.9mm; Manufacturer: Wurth Electronics; Manufacturer Part Number: 151051RS11000; Shape: Round; Forward Current: 30mA; Luminous Intensity-Nom: 30mcd; Channels: 1; T-code: T-1 3/4; Viewing Angle: 60°; Overall Height: 8.7mm; Supplier: Farnell; Supplier Part Number: 2322131; RoHS: Yes; Category: LEDs; Stock: 1068; Pricing: 5=0.165, 10=0.163, 100=0.13, 500=0.117, 1000=0.115 (EUR); Mounting Technology: Radial; Pins: 2; Color: Red; Min Operating Temperature: -40°C; Max Operating Temperature: 85°C; Lens Style: Diffused; Optoelectronic Device Type: SINGLE COLOR LED; Packaging: Bulk; Size: 4.9mm; Terminal Pitch: 2.54mm; Reach SVHC Compliant: Yes; RoHS Compliant: Yes; ComponentLink1URL: https://datasheet.ciiva.com:443/pdfs/VipMasterIC/IC/MIDC/MIDC-S-A0001524545/MIDC-S-A0001524545-1.pdf?src-supplier=IHS+Markit; ComponentLink1Description: https://datasheet.ciiva.com:443/pdfs/VipMasterIC/IC/MIDC/MIDC-S-A0001524545/MIDC-S-A0001524545-1.pdf?src-supplier=IHS+Markit; ComponentLink2URL: https://datasheet.ciiva.com/23843/151051rs11000-23843281.pdf?src-supplier=Newark; ComponentLink2Description: https://datasheet.ciiva.com/23843/151051rs11000-23843281.pdf?src-supplier=Newark; ComponentLink3URL: https://datasheet.ciiva.com/29335/759488-da-01-en-tht-led-5mm-rot-151051rs11000-29335455.pdf?src-supplier=Conrad; ComponentLink3Description: https://datasheet.ciiva.com/29335/759488-da-01-en-tht-led-5mm-rot-151051rs11000-29335455.pdf?src-supplier=Conrad; ComponentLink4URL: https://datasheet.ciiva.com/22657/1911506-22657034.pdf?src-supplier=Element14; ComponentLink4Description: https://datasheet.ciiva.com/22657/1911506-22657034.pdf?src-supplier=Element14; ComponentLink5URL: https://datasheet.ciiva.com/29562/151051rs11000-29562906.pdf?src-supplier=Digikey; ComponentLink5Description: https://datasheet.ciiva.com/29562/151051rs11000-29562906.pdf?src-supplier=Digikey
footprint LED_TH_3mm
pins: 1, 2
text: A; K

## LED_Yellow_0603_2.2V_HSMY-C190
designator DS?, comment HSMY-C190  (value not drawn)
LED Uni-Color Yellow 589nm 2-Pin Chip LED T/R; Manufacturer: Broadcom Avago; Supplier 1: Digi-Key; Supplier Part Number 1: 516-1424-1-ND; Manufacturer Part Number: HSMY-C190; RoHS: Yes; Category: LEDs; Stock 1: 286358; Pricing 1: 1=0.41, 10=0.27, 100=0.1804, 500=0.1248, 1000=0.104, 2000=0.0936 (USD); ComponentLink1URL: https://datasheet.ciiva.com/11774/0900766b80ad69c9-11774266.pdf?src-supplier=Rs; ComponentLink1Description: https://datasheet.ciiva.com/11774/0900766b80ad69c9-11774266.pdf?src-supplier=Rs; ComponentLink2URL: https://datasheet.ciiva.com/34302/1557097-34302483.pdf?src-supplier=Jameco; ComponentLink2Description: https://datasheet.ciiva.com/34302/1557097-34302483.pdf?src-supplier=Jameco; ComponentLink3URL: https://datasheet.ciiva.com/15117/getdatasheetpartid-118294-15117593.pdf?src-supplier=Verical; ComponentLink3Description: https://datasheet.ciiva.com/15117/getdatasheetpartid-118294-15117593.pdf?src-supplier=Verical; ComponentLink4URL: https://datasheet.ciiva.com/29280/180660-da-01-en-chip-led-hsmy-c190-gelb-29280613.pdf?src-supplier=Conrad; ComponentLink4Description: https://datasheet.ciiva.com/29280/180660-da-01-en-chip-led-hsmy-c190-gelb-29280613.pdf?src-supplier=Conrad; ComponentLink5URL: https://datasheet.ciiva.com/14172/swseriehsmx-c150toc190-e-14172172.pdf?src-supplier=Distrelec; ComponentLink5Description: https://datasheet.ciiva.com/14172/swseriehsmx-c150toc190-e-14172172.pdf?src-supplier=Distrelec
footprint LED_0603 (Chip Capacitor 0603, 2-Leads, Body 1.68x0.88mm, IPC Medium Density)
pins: 1, 2
text: A; K

## MH_2mm
designator MH?  (value not drawn)  (no BOM)
Mounting Hole 2mm
footprint MH_2mm
pins: 1

## MH_3mm
designator MH?  (value not drawn)  (no BOM)
Mounting Hole 3mm
footprint MH_3mm
pins: 1

## MH_4mm
designator MH?  (value not drawn)  (no BOM)
Mounting Hole 4mm
footprint MH_4mm
pins: 1

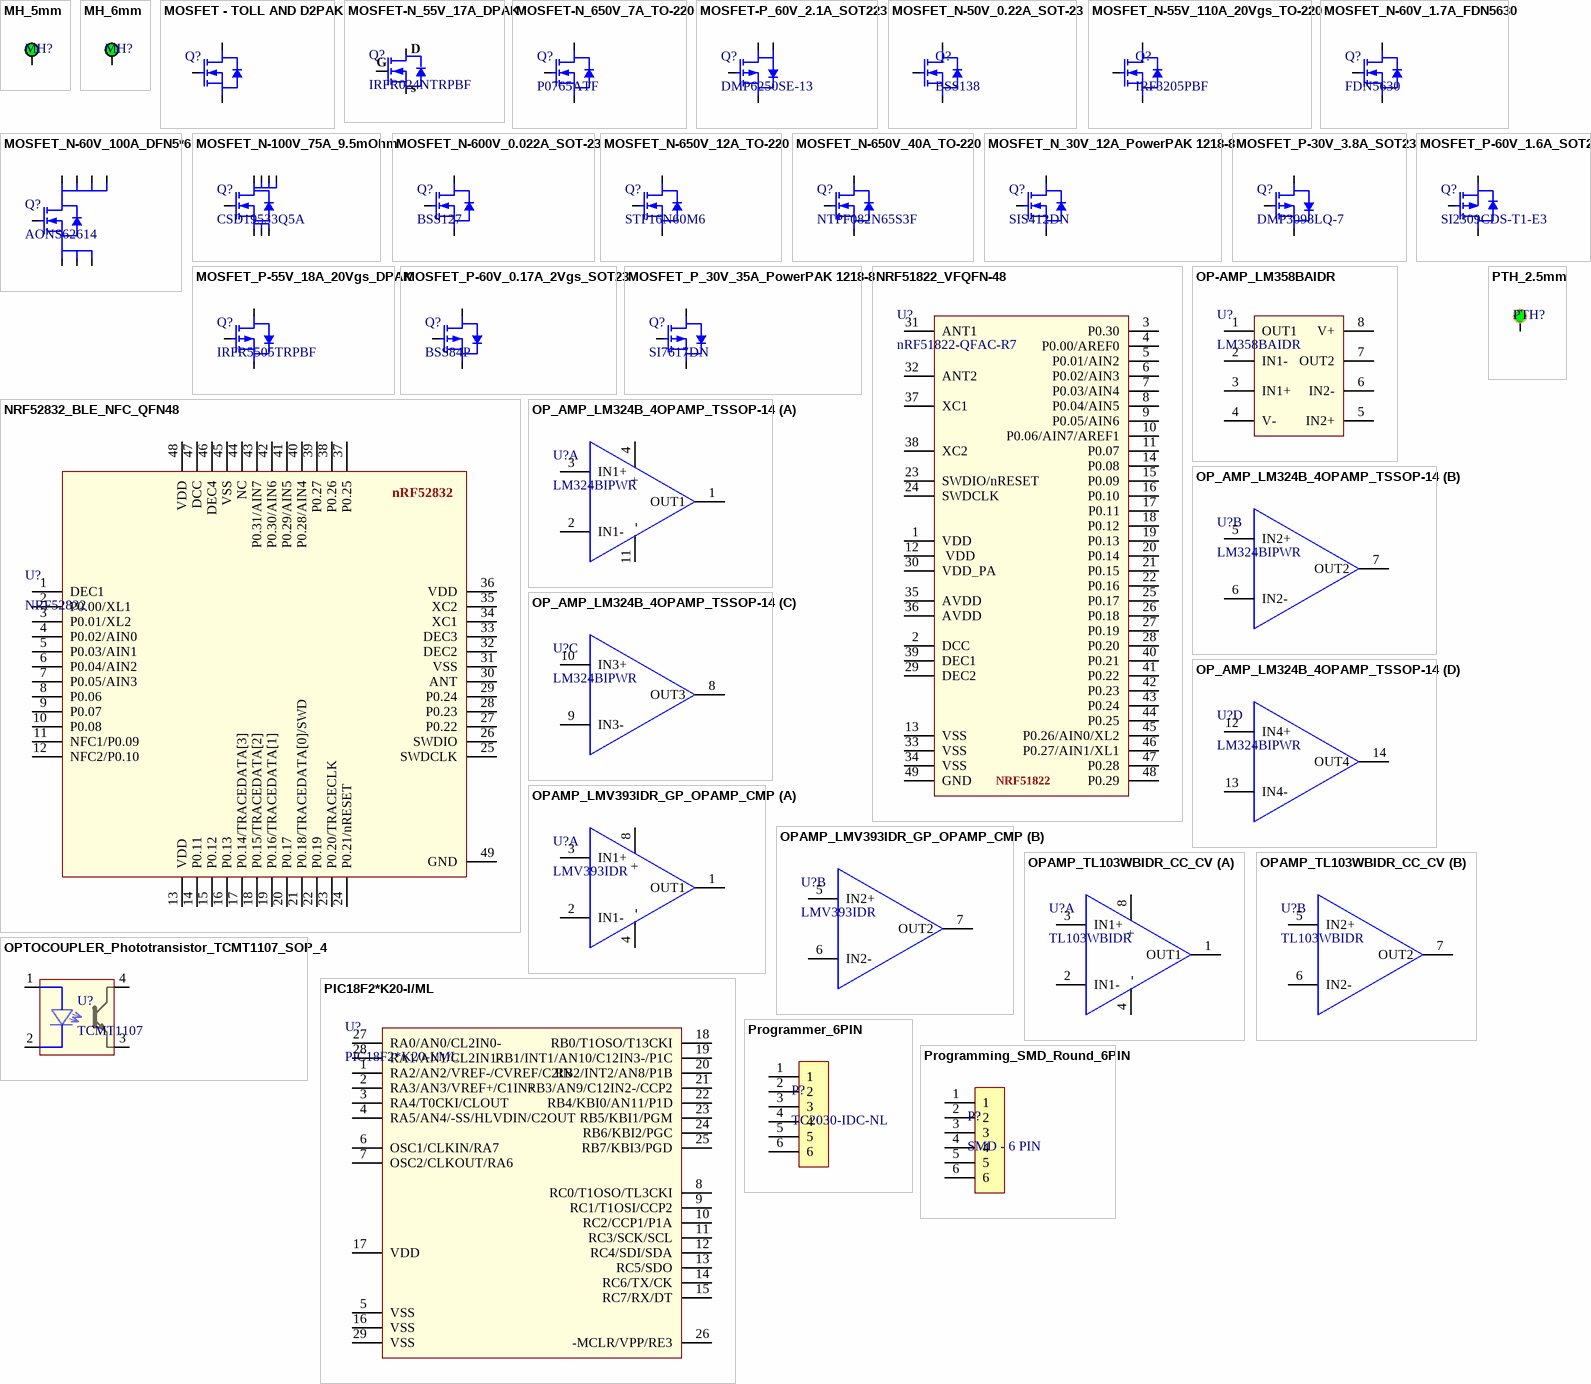
[diagram p11: symbols MH_5mm to PTH_2.5mm]

## MH_5mm
designator MH?  (value not drawn)  (no BOM)
Mounting Hole 5mm
footprint MH_5mm
pins: 1

## MH_6mm
designator MH?  (value not drawn)  (no BOM)
Mounting Hole 6mm
footprint MH_6mm
pins: 1

## MOSFET - TOLL AND D2PAK
designator Q?
footprint D2PAK & TOLL
pins: D, G, S

## MOSFET-N_55V_17A_DPAK
designator Q?, comment IRFR024NTRPBF
Mosfet, Power; N-ch; Vdss 55V; Rds(on) 0.075 Ohm; Id 17A; D-pak (TO-252AA); Pd 45W; Manufacturer: Infineon; Nominal Vgs: 4V; Number of Elements: 1NUMBER; Fall Time: 27ns; Element Configuration: 5460ElementConfiguration; On-State Resistance: 75mR; Supplier 1: Digikey; Manufacturer Part Number: IRFR024NTRPBF; RoHS: Yes; Category: MOSFETs; Stock 1: 180216; Pricing 1: 1=0.89, 10=0.77, 100=0.5331, 500=0.44546, 1000=0.37911 (USD); Current Rating: 17A; Voltage Rating (DC): 55V; Package Quantity: 2000NUMBER; Resistance: 75mR; Radiation Hardening: 5898YesNo; Supplier Part Number 1: IRFR024NPBFCT-ND
footprint DPAK - TO-252
pins: 1 G, 3 S, 4 D
text: s

## MOSFET-N_650V_7A_TO-220
designator Q?, comment P0765ATF
N-Channel 650V (D-S) Power MOSFET
footprint TO220
pins: 1 G, 2 D, 3 S

## MOSFET-P_60V_2.1A_SOT223
designator Q?, comment DMP6250SE-13
Power Field-Effect Transistor, 2.1A I(D), 60V, 0.25ohm, 1-Element, P-Channel, Silicon, Metal-oxide Semiconductor FET; Manufacturer: Diodes; Package Body Material: Plastic; Additional Feature: HIGH RELIABILITY; Avalanche Energy Rating (Eas): 8mJ; Case Connection: DRAIN; Drain-source On Resistance-Max: 250mR; Number of Elements: 1; Operating Mode: ENHANCEMENT MODE; Pulsed Drain Current-Max (IDM): 11A; Time @ Peak Reflow Temperature-Max (s): 30s; Transistor Application: SWITCHING; Reference Standard: AEC-Q101; Supplier: Farnell; Supplier Part Number: 3943824; Manufacturer Part Number: DMP6250SE-13; RoHS: Yes; Category: MOSFETs; Stock: 1811; Pricing: 1=0.85, 10=0.614, 100=0.415, 500=0.329, 1000=0.294, 5000=0.249 (EUR); Pins: 4; Package Shape: Rectangular; Terminal Finish: Tin; Transistor Element Material: SILICON; JESD-609 Code: e3; Polarity/Channel Type: P-CHANNEL; Drain Current-Max (ID): 2.1A; DS Breakdown Voltage-Min: 60V; FET Technology: METAL-OXIDE SEMICONDUCTOR; JESD-30 Code: R-PDSO-G4; Moisture Sensitivity Level: 1; Package Style: SMALL OUTLINEMeter; Peak Reflow Temperature (Cel): 260°C; Surface Mount: Yes; Terminal Form: Gull Wing; Terminal Position: DUAL; Reach SVHC Compliant: Yes; RoHS Compliant: Yes; ComponentLink1URL: https://datasheet.ciiva.com:443/pdfs/VipMasterIC/IC/DIOD/DIOD-S-A0004140808/DIOD-S-A0004140808-1.pdf?src-supplier=IHS+Markit; ComponentLink1Description: https://datasheet.ciiva.com:443/pdfs/VipMasterIC/IC/DIOD/DIOD-S-A0004140808/DIOD-S-A0004140808-1.pdf?src-supplier=IHS+Markit; ComponentLink2URL: https://datasheet.ciiva.com/29743/dmp6250se-29743027.pdf?src-supplier=Digikey; ComponentLink2Description: https://datasheet.ciiva.com/29743/dmp6250se-29743027.pdf?src-supplier=Digikey
footprint SOT223 (SOT223, 4-Leads, Body 6.50x7.00mm (avg), Pitch 2.30mm, IPC Medium Density)
pins: 1 G, 2 D, 3 S, 4 D